# EAGLE library part TLV61046A (library XLibrary)
28-V Output Voltage Boost Converter with Power Diode and Isolation Switch
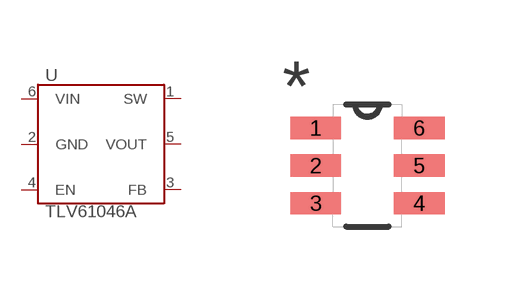
[diagram p5: symbol with the pads of SOT95P280X145-6N; footprint SOT95P280X145-6N]

Designator prefix U

## TLV61046A (MPN: TLV61046ADBVT; PACKAGE: SOT23-6; SUPPLIER: Texas Instruments)  [SOT95P280X145-6N]
1  SW  in
2  GND  pwr
3  FB  in
4  EN  in
5  VOUT  out
6  VIN  pwr

## Footprint SOT95P280X145-6N (pad centres in mm)
smd 1.27 x 0.559: 1 -1.295,0.94; 2 -1.295,0; 3 -1.295,-0.94; 4 1.295,-0.94; 5 1.295,0; 6 1.295,0.94